# EAGLE library part LTC4002 (library template)
Standalone LI-ION Switch Mode Battery Charger
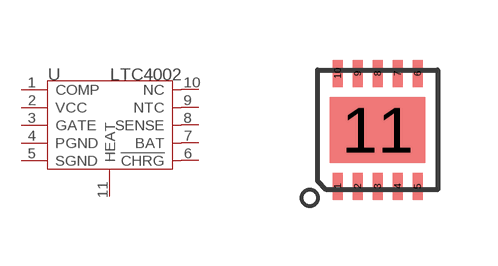
[diagram p10: symbol with the pads of DFN10; footprint DFN10]

Designator prefix U

## LTC4002  [DFN10]
1  COMP
2  VCC
3  GATE
4  PGND
5  SGND
6  !CHRG
7  BAT
8  SENSE
9  NTC
10  NC
11  HEAT

## Footprint DFN10 (pad centres in mm)
smd 0.25 x 0.675: 1 -1,-1.413; 2 -0.5,-1.413; 3 0,-1.413; 4 0.5,-1.413; 5 1,-1.413; 6 1,1.413; 7 0.5,1.413; 8 0,1.413; 9 -0.5,1.413; 10 -1,1.413
smd 2.38 x 1.65: 11 0,0